# Altium schematic symbol library 2SC1384-TA.SchLib: 1 symbol
Pins are listed as number, name and electrical type; pins without a type are passive.

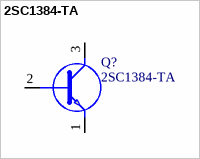
[diagram p0: symbol 2SC1384-TA]

## 2SC1384-TA
designator Q?
Bipolar Transistors - BJT NPN Si Transistor Epitaxial; Manufacturer: Jiangsu Changjing Electronics Technology Co., Ltd.; Geometry.Height: 5.33mm; Mfr. Part #: 2SC1384-TA; LCSC Part #: C2910422; Datasheet: https://datasheet.lcsc.com/lcsc/2204131745_Jiangsu-Changjing-Electronics-Technology-Co---Ltd--2SC1384-TA_C2910422.pdf
footprint 2SC1384-TA
pins: 1 E, 2 B, 3 C